# Altium footprint library SSOP-8.PcbLib: 1 footprints
Each footprint in its own frame and in the unit in brackets; x right, y up, seen from the top. Pads: shape width x height; smd on the part's side, far side on the other; paste and mask are expansions set on the pad; w line width, h text height; cw(c..) or ccw(c..) is an arc to the next point about the centre after c.
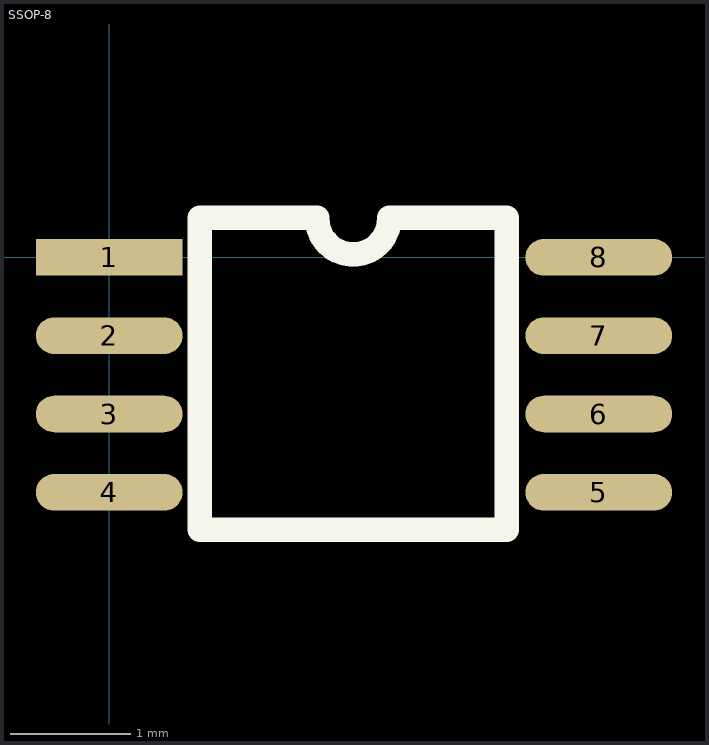
[diagram p0: the footprint, top view; thin cyan lines are the x and y axes]

## SSOP-8 [mil]
height 45
pads (8):
  rect 48x12 smd: 1(0,0)
  oval 48x12 smd: 2(0,-25.6) 3(0,-51.2) 4(0,-76.8) 5(160,-76.8) 6(160,-51.2) 7(160,-25.6) 8(160,0)
TopOverlay:
  lines w8: 29.61,12.74 29.61,-89 130,-89 130,12.74 ; 29.61,13 67.93,13 ; 67.93,12.74 ccw(c79.74,12.74) 91.55,12.74 ; 91.55,13 130,13
Mechanical4:
  text "0" at 0,0 h1